# Altium schematic symbol library Battery.SchLib: 5 symbols
Pins are listed as number, name and electrical type; pins without a type are passive.

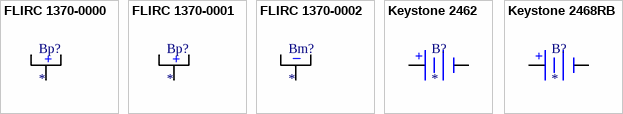
[diagram p0: symbols FLIRC 1370-0000 to Keystone 2468RB]

## FLIRC 1370-0000
designator Bp?
Battery Positive Side Coil
pins: 1 -
text: +

## FLIRC 1370-0001
designator Bp?
Battery Positive Side Coil
pins: 1 -
text: +

## FLIRC 1370-0002
designator Bm?
Battery Negative Side Coil
pins: 1 -
text: _

## Keystone 2462
designator B?
pins: 1 +, 2 -

## Keystone 2468RB
designator B?
pins: 1 +, 2 -